# Altium schematic symbol library UVS-Schlib.SchLib: 36 symbols
Pins are listed as number, name and electrical type; pins without a type are passive.

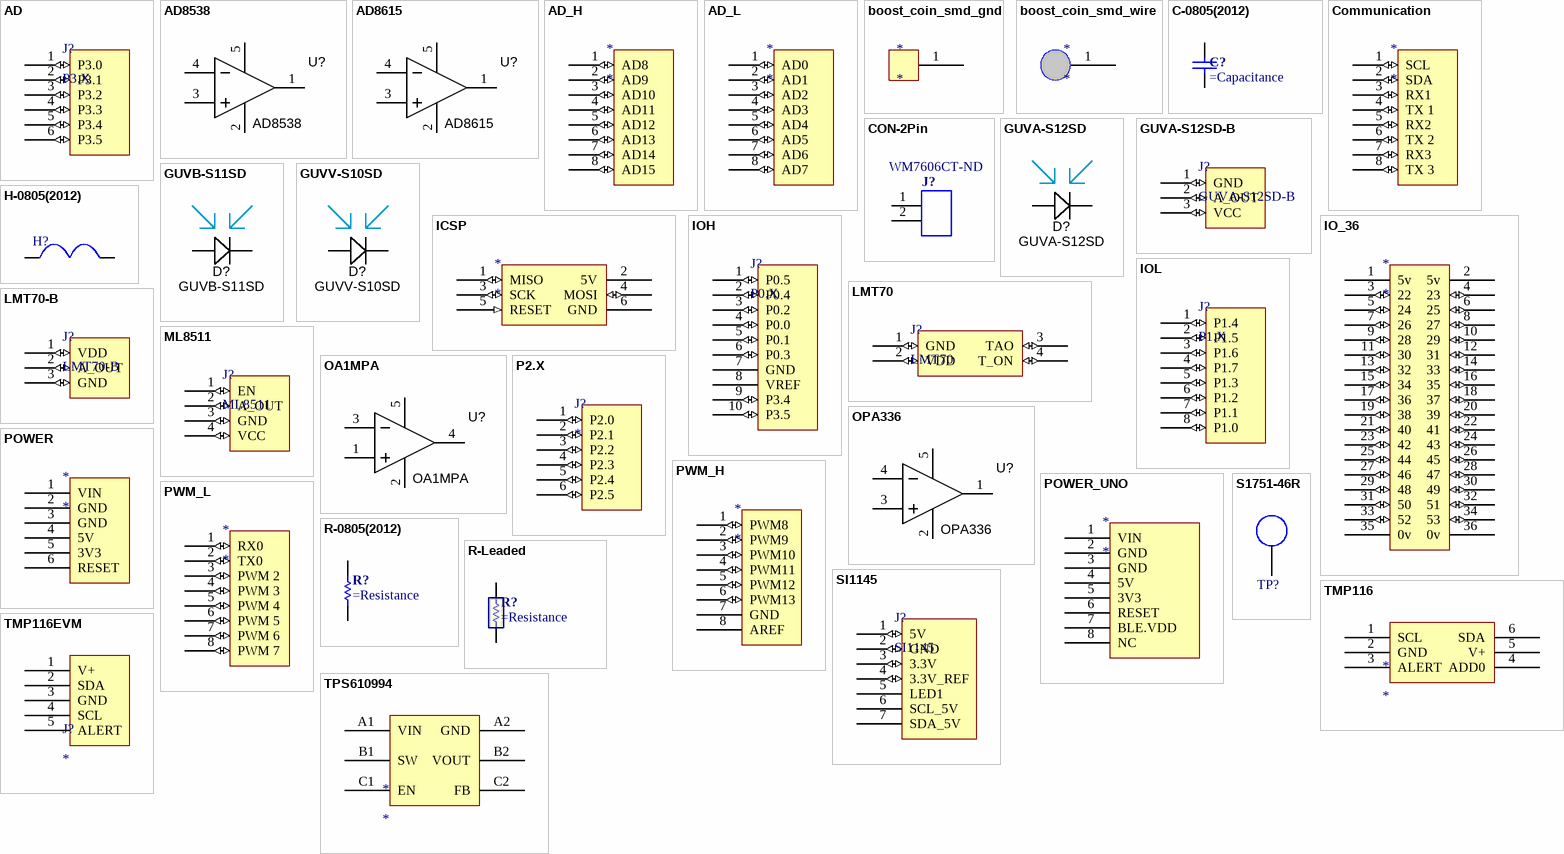
[diagram p0: symbols AD to TPS610994]

## AD
designator J?, comment P3.X
footprint Header 6x1 8.5mm (Stackable 6 pin header)
pins: 1 P3.0 (io), 2 P3.1 (io), 3 P3.2 (io), 4 P3.3 (io), 5 P3.4 (io), 6 P3.5 (io)

## AD8538
designator U?
IC SMD Atuo-Zero Op Amp Precision, Low Power; Manufacturer: Analog Devices; Manufacturer Part Number: AD8538AUJZ-REEL7; Number of Channels: 1 Channel; Shutdown: No Shutdown; CMRR - Common Mode Rejection Ratio: 150 dB; en - Input Voltage Noise Density: 50 nV/sqrt Hz at 5 V; GBP - Gain Bandwidth Product: 430 kHz; Ib - Input Bias Current: 25 pA; Maximum Dual Supply Voltage: +/- 2.5 V; Minimum Dual Supply Voltage: +/- 1.35 V; Operating Supply Current: 180 uA; Operating Supply Voltage: 2.7 V to 5.5 V; PSRR - Power Supply Rejection Ratio: 125 dB; SR - Slew Rate: 0.4 V/us at 5 V; Supply Voltage - Max: 5.5 V; Supply Voltage - Min: 2.7 V; Voltage Gain dB: 141 dB; Vos - Input Offset Voltage: 5 uV; Supplier 1: Mouser; RoHS: RoHS Compliant; Category: Precision Amplifiers; Stock 1: 8750; Pricing 1: 1=1.39, 10=1.26, 25=1.12, 100=1.01, 250=0.900, 500=0.788, 1000=0.652, 3000=0.606, 6000=0.601 (USD); Height: 0.87 mm; Length: 2.9 mm; Package / Case: TSOT-5; Packaging: Reel; Product: Precision Amplifiers; Series: AD8538; Type: General Purpose Amplifier; Width: 1.6 mm; Brand: Analog Devices; Mounting Style: SMD/SMT; Maximum Operating Temperature: + 125 C; Minimum Operating Temperature: - 40 C; Standard Pack Qty: 3000; RoHS - Mouser: Y; Minimum Order Quantity: 1; Reeling: True; ComponentLink1URL: http://www.mouser.com/ds/2/609/AD8538_8539-877837.pdf; ComponentLink1Description: http://www.mouser.com/ds/2/609/AD8538_8539-877837.pdf; Supplier Part Number 1: 584-AD8538AUJZ-R7
footprint SOT23-5 (SOT23, 5-Leads, Body 2.9x1.7mm, Pitch 0.95mm, Lead Span 2.8mm, IPC Low Density)
pins: 1 OUT, 2 V-, 3 IN+, 4 IN-, 5 V+

## AD8615
designator U?
IC SMD Transimpedance Op Amp Precision; Manufacturer: Analog Devices; Manufacturer Part Number: AD8615AUJZ-REEL7; Output Type: Rail to Rail Input/Output; Input Voltage Range - Max: 5 V; Number of Channels: 1 Channel; Shutdown: No Shutdown; CMRR - Common Mode Rejection Ratio: 100 dB; en - Input Voltage Noise Density: 10 nV/sqrt Hz at 5 V; GBP - Gain Bandwidth Product: 24 MHz; Ib - Input Bias Current: 550 pA; Operating Supply Current: 1.7 mA; Operating Supply Voltage: 2.7 V to 5 V; Output Current per Channel: 150 mA; PSRR - Power Supply Rejection Ratio: 90 dB; SR - Slew Rate: 12 V/us; Supply Voltage - Min: 2.7 V; Voltage Gain dB: 123.52 dB; Vos - Input Offset Voltage: 80 uV; Supplier 1: Mouser; RoHS: RoHS Compliant; Category: Precision Amplifiers; Stock 1: 7346; Pricing 1: 1=2.11, 10=1.91, 25=1.71, 100=1.53, 250=1.36, 500=1.19, 1000=0.992, 3000=0.921, 6000=0.913 (USD); Height: 0.87 mm; Length: 2.9 mm; Package / Case: TSOT-5; Packaging: Reel; Product: Precision Amplifiers; Series: AD8615; Type: General Purpose Amplifier; Width: 1.6 mm; Brand: Analog Devices; Mounting Style: SMD/SMT; Maximum Operating Temperature: + 125 C; Minimum Operating Temperature: - 40 C; Standard Pack Qty: 3000; Supply Voltage - Max: 5 V; RoHS - Mouser: Y; Minimum Order Quantity: 1; Reeling: True; ComponentLink1URL: http://www.mouser.com/ds/2/609/AD8615_8616_8618-877841.pdf; ComponentLink1Description: http://www.mouser.com/ds/2/609/AD8615_8616_8618-877841.pdf; Supplier Part Number 1: 584-AD8615AUJZ-R7
footprint SOT23-5 (SOT23, 5-Leads, Body 2.9x1.7mm, Pitch 0.95mm, Lead Span 2.8mm, IPC Low Density)
pins: 1 OUT, 2 V-, 3 IN+, 4 IN-, 5 V+

## AD_H
designator *
footprint Header 8x1 8.5mm (Stackable 8 pin header)
pins: 1 AD8 (io), 2 AD9 (io), 3 AD10 (io), 4 AD11 (io), 5 AD12 (io), 6 AD13 (io), 7 AD14 (io), 8 AD15 (io)

## AD_L
designator *
footprint Header 8x1 8.5mm (Stackable 8 pin header)
pins: 1 AD0 (io), 2 AD1 (io), 3 AD2 (io), 4 AD3 (io), 5 AD4 (io), 6 AD5 (io), 7 AD6 (io), 8 AD7 (io)

## boost_coin_smd_gnd
designator *
footprint smd_gnd
pins: 1

## boost_coin_smd_wire
designator *
footprint smd_pin
pins: 1

## C-0805(2012)
designator C?
___ OHM ___ mW 0805(2012) SMD
footprint CAP-0805(2012)-R (Capacitor 0805(2012) Reflow)
pins: 1, 2

## Communication
designator *
footprint Header 8x1 8.5mm (Stackable 8 pin header)
pins: 1 SCL (io), 2 SDA (io), 3 RX1 (io), 4 TX 1 (io), 5 RX2 (io), 6 TX 2 (io), 7 RX3 (io), 8 TX 3 (io)

## CON-2Pin
designator J?, comment Supplier Part Number 1: WM7606CT-ND  (hidden comment: Header 2 pin)
Header, 2 pin, .1 pitch; Manufacturer: Molex, LLC; Manufacturer Part Number: 0533980271; Pitch - Mating: 0.049" (1.25mm); Style: Board to Cable/Wire; Shrouding: Shrouded - 3 Wall; Number of Positions: 2; Number of Positions Loaded: All; Material Flammability Rating: UL94 V-0; Supplier 1: Digi-Key; RoHS: RoHS Compliant; Category: Connectors, Interconnects; Stock 1: 38010; Pricing 1: 1=1.07, 10=0.941, 25=0.886, 50=0.849, 100=0.8122, 250=0.73832, 500=0.66448 (USD); Packaging: Cut Tape (CT); Part Status: Active; Connector Type: Header; Contact Type: Male Blade; Number of Rows: 1; Row Spacing - Mating: -; Mounting Type: Surface Mount; Termination: Solder; Fastening Type: Detent Lock; Contact Length - Mating: -; Contact Length - Post: -; Overall Contact Length: -; Insulation Height: 0.185" (4.70mm); Contact Shape: Rectangular; Contact Finish - Mating: Tin; Contact Finish Thickness - Mating: 39µin (1.00µm); Features: Solder Retention; Ingress Protection: -; Insulation Color: Natural; Contact Finish - Post: Tin; Contact Material: Phosphor Bronze; Insulation Material: Polyamide (PA), Nylon; Operating Temperature: -; Current Rating: -; Voltage Rating: -; Mated Stacking Heights: -; Contact Finish Thickness - Post: -; Applications: Automotive, General Purpose, Industrial, Medical; ComponentLink1URL: http://www.molex.com/pdm_docs/sd/533980271_sd.pdf; ComponentLink1Description: http://www.molex.com/pdm_docs/sd/533980271_sd.pdf
footprint WM7606CT-ND
pins: 1, 2

## GUVA-S12SD
designator D?
UV Photodiode, 3528 SMD
footprint SMD 3528
pins: A, K

## GUVA-S12SD-B
designator J?
UV Light Sensor Breakout Board
footprint Header 3x1 8.5mm (Stackable 3 pin header)
pins: 1 GND (io), 2 A_OUT (io), 3 VCC (io)

## GUVB-S11SD
designator D?
UV Photodiode, 3528 SMD
footprint SMD 3528
pins: A, K

## GUVV-S10SD
designator D?
UV Photodiode, 3528 SMD
footprint SMD 3528
pins: A, K

## H-0805(2012)
designator H?  (value not drawn)
footprint H-0805(2012)-H (Inductor 0805(2012) Reflow)
pins: 1, 2

## ICSP
designator *
footprint ICSP
pins: 1 MISO (io), 2 5V (power), 3 SCK (io), 4 MOSI (io), 5 RESET (in), 6 GND (power)

## IO_36
designator *
footprint HEADER 36X 8MM (Stackable 10 pin header)
pins: 1 5v (power), 2 5v (power), 3 22 (io) "Digital 22", 4 23 (io) "Digital 23", 5 24 (io) "Digital 24", 6 25 (io) "Digital 25", 7 26 (io) "Digital 26", 8 27 (io) "Digital 27", 9 28 (io) "Digital 28", 10 29 (io) "Digital 29", 11 30 (io) "Digital 30", 12 31 (io) "Digital 31", 13 32 (io) "Digital 32", 14 33 (io) "Digital 33", 15 34 (io) "Digital 34", 16 35 (io) "Digital 35", 17 36 (io) "Digital 36", 18 37 (io) "Digital 37", 19 38 (io) "Digital 38", 20 39 (io) "Digital 39", 21 40 (io) "Digital 40", 22 41 (io) "Digital 41", 23 42 (io) "Digital 42", 24 43 (io) "Digital 43", 25 44 (io) "Digital 44", 26 45 (io) "Digital 45", 27 46 (io) "Digital 46", 28 47 (io) "Digital 47", 29 48 (io) "Digital 48", 30 49 (io) "Digital 49", 31 50 (io) "Digital 50", 32 51 (io) "Digital 51", 33 52 (io) "Digital 52", 34 53 (io) "Digital 53", 35 0v (power), 36 0v (power)

## IOH
designator J?, comment P0.X
footprint Header 10x1 8.5mm (Stackable 10 pin header)
pins: 1 P0.5 (io), 2 P0.4 (io), 3 P0.2 (io), 4 P0.0 (io), 5 P0.1 (io), 6 P0.3 (io), 7 GND (power), 8 VREF, 9 P3.4 (io), 10 P3.5 (io)

## IOL
designator J?, comment P1.X
footprint Header 8x1 8.5mm (Stackable 8 pin header)
pins: 1 P1.4 (io), 2 P1.5 (io), 3 P1.6 (io), 4 P1.7 (io), 5 P1.3 (io), 6 P1.2 (io), 7 P1.1 (io), 8 P1.0 (io)

## LMT70
designator J?
Precision Analog Temperature Sensor
pins: 1 GND (io), 2 VDD (io), 3 TAO (io), 4 T_ON (io)

## LMT70-B
designator J?
Precision Analog Temperature Sensor
footprint Header 3x1 8.5mm (Stackable 3 pin header)
pins: 1 VDD (io), 2 A_OUT (io), 3 GND (io)

## ML8511
designator J?
UV Light Sensor Breakout Board
footprint Header 4x1 8.5mm (Stackable 4 pin header)
pins: 1 EN (io), 2 A_OUT (io), 3 GND (io), 4 VCC (io)

## OA1MPA
designator U?
Manufacturer: STMicroelectronics; Manufacturer Part Number: OA1MPA22C; Slew Rate: 0.06V/µs; Number of Circuits: 1; Gain Bandwidth Product: 150KHz; Input Bias Current: 1pA; Input Offset Voltage (Vos): 200uV; Operating Supply Current: 10uA; Output Current per Channel: 56mA; Supply Voltage: 5.5V; Supplier 1: Mouser; Stock 1: 242; Pricing 1: 1=1.27, 10=1.08, 50=1.08, 100=0.832, 1000=0.58, 10000=0.494 (USD); Case/Package: SC; Number of Pins: 5; Min Operating Temperature: -40°C; Max Operating Temperature: 125°C; Package Quantity: 3000; Packaging: Tape and Reel; Bandwidth: 150KHz; Number of Amplifiers: 1; Length: 2.2mm; Height: 1mm; Width: 1.35mm; REACH SVHC: No SVHC; Lead Free: Lead Free; ComponentLink1Description: https://datasheet.ciiva.com/29638/dm00109015-29638347.pdf; Supplier Part Number 1: 511-OA1MPA22C
footprint SC70-5L (SC70, 5-Leads, Body 2.20x2.7mm, Pitch 0.65mm)
pins: 1 OUT, 2 V-, 3 IN+, 4 IN-, 5 V+

## OPA336
designator U?
Manufacturer: Texas Instruments; Manufacturer Part Number: OPA336NA/3K; Amplifier Type: Low Power Amplifier; Input Type: Rail-to-Rail; Supply Type: Single; Number of Channels: 1 Channel; Shutdown: No Shutdown; CMRR - Common Mode Rejection Ratio: 76 dB to 86 dB; en - Input Voltage Noise Density: 40 nV/sqrt Hz; GBP - Gain Bandwidth Product: 100 kHz; Ib - Input Bias Current: 10 pA; In - Input Noise Current Density: 30 fA/sqrt Hz; Operating Supply Current: 20 uA; Operating Supply Voltage: 2.3 V to 5.5 V; PSRR - Power Supply Rejection Ratio: 25 uV/V; SR - Slew Rate: 0.03 V/us; Supply Voltage - Max: 5.5 V; Supply Voltage - Min: 2.3 V; Voltage Gain dB: 115 dB; Vos - Input Offset Voltage: 0.125 mV; Supplier 1: Mouser; RoHS: RoHS Compliant; Category: Operational Amplifiers - Op Amps; Stock 1: 11756; Pricing 1: 1=1.72, 10=1.55, 25=1.47, 100=1.24, 250=1.17, 500=1.02, 1000=0.731, 3000=0.731 (USD); Height: 1.15 mm; Length: 2.9 mm; Output Type: Rail-to-Rail; Package / Case: SOT-23-5; Packaging: Reel; Product: Precision Amplifiers; Series: OPA336; Technology: CMOS; Width: 1.6 mm; Brand: Texas Instruments; Mounting Style: SMD/SMT; Ios - Input Offset Current: 10 pA; Maximum Operating Temperature: + 85 C; Minimum Operating Temperature: - 40 C; Standard Pack Qty: 3000; RoHS - Mouser: Y; Minimum Order Quantity: 1; Reeling: True; Supplier Part Number 1: 595-OPA336NA/3K
footprint SOT23-5 (SOT23, 5-Leads, Body 2.9x1.7mm, Pitch 0.95mm, Lead Span 2.8mm, IPC Low Density)
pins: 1 OUT, 2 V-, 3 IN+, 4 IN-, 5 V+

## P2.X
designator J?
footprint Header 6x1 8.5mm (Stackable 6 pin header)
pins: 1 P2.0 (io), 2 P2.1 (io), 3 P2.2 (io), 4 P2.3 (io), 5 P2.4 (io), 6 P2.5 (io)

## POWER
designator *
footprint Header 6x1 8.5mm (Stackable 6 pin header)
pins: 1 VIN (power), 2 GND (power), 3 GND (power), 4 5V (power), 5 3V3 (power), 6 RESET

## POWER_UNO
designator *
footprint Header 8x1 8.5mm (Stackable 8 pin header)
pins: 1 VIN (power), 2 GND (power), 3 GND (power), 4 5V (power), 5 3V3 (power), 6 RESET, 7 BLE.VDD (power) "IOREF", 8 NC

## PWM_H
designator *
footprint Header 8x1 8.5mm (Stackable 8 pin header)
pins: 1 PWM8 (io) "PWM 8", 2 PWM9 (io) "PWM 9", 3 PWM10 (io) "PWM 10", 4 PWM11 (io) "PWM 11", 5 PWM12 (io) "PWM 12", 6 PWM13 (io) "PWM 13", 7 GND (power), 8 AREF

## PWM_L
designator *
footprint Header 8x1 8.5mm (Stackable 8 pin header)
pins: 1 RX0 (io) "PWM 0 & RX0", 2 TX0 (io) "PWM 1 & TX0", 3 PWM 2 (io), 4 PWM 3 (io), 5 PWM 4 (io), 6 PWM 5 (io), 7 PWM 6 (io), 8 PWM 7 (io)

## R-0805(2012)
designator R?
___ OHM ___ mW 0805(2012) SMD
footprint R-0805(2012)-R (Resistor 0805(2012) Reflow)
pins: 1, 2

## R-Leaded
designator R?
___ OHM ___ mW Leaded
footprint R-Leaded (250 mW Leaded Resistor)
pins: 1, 2

## S1751-46R
designator TP?  (value not drawn)
PC TEST POINT TIN SMD; Manufacturer: Harwin Inc.; Supplier 1: Digi-Key; RoHS: RoHS Compliant; Stock 1: 275112; Pricing 1: 1=0.29, 10=0.272, 25=0.2324, 50=0.2032, 100=0.1888, 250=0.167, 500=0.15972, 1000=0.13068 (USD); Packaging: Cut Tape (CT); Type: PC Test Point; Terminal: 0.128" x 0.065" x 0.079" (3.25mm x 1.65mm x 2.00mm) Brass, Tin Plated; Mounting Type: Surface Mount; Material: Copper Alloy; Color: Natural; ComponentLink1URL: http://cdn.harwin.com/pdfs/S1751.pdf; ComponentLink1Description: http://cdn.harwin.com/pdfs/S1751.pdf; Supplier Part Number 1: 952-1478-1-ND; Manufacturer Part Number: S1751-46R; Category: Test and Measurement
footprint S1751-46R (PC TEST POINT TIN SMD)
pins: 1

## SI1145
designator J?
UV Light Sensor Digital
footprint Header 7x1 8.5mm (Stackable 7 pin header)
pins: 1 5V (io), 2 GND (io), 3 3.3V (io), 4 3.3V_REF (io), 5 LED1, 6 SCL_5V, 7 SDA_5V

## TMP116
designator *
pins: 1 SCL, 2 GND, 3 ALERT, 4 ADD0, 5 V+, 6 SDA

## TMP116EVM
designator J?
footprint Header 5x1 8.5mm (Stackable 5 pin header)
pins: 1 V+, 2 SDA, 3 GND, 4 SCL, 5 ALERT

## TPS610994
designator *
pins: A1 VIN, A2 GND, B1 SW, B2 VOUT, C1 EN, C2 FB